# EAGLE library part ZXMHC3F381N8 (library bt_motordriver)
30V SO8 Complementary enhancement mode MOSFET H-Bridge This new generation complementary MOSFET H-Bridge features low on-resistance achievable with low gate drive (Vgs=4.5V). Reference: <http://www.diodes.com/datasheets/ZXMHC3F381N8.pdf>http://www.diodes.com/datasheets/ZXMHC3F381N8.pdf
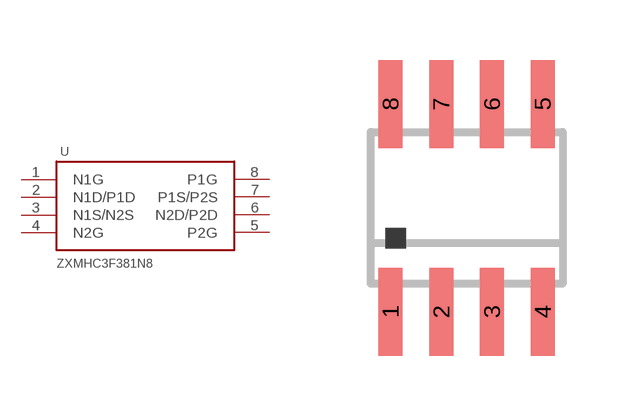
[diagram p0: symbol with the pads of SOIC8; footprint SOIC8]

Designator prefix -

## ZXMHC3F381N8  [SOIC8]
1  N1G
2  N1D/P1D
3  N1S/N2S
4  N2G
5  P2G
6  N2D/P2D
7  P1S/P2S
8  P1G

## Footprint SOIC8 (pad centres in mm)
Small Outline IC From ref-packages.lbr
smd 0.6 x 2.2: 1 -1.905,-2.6; 2 -0.635,-2.6; 3 0.635,-2.6; 4 1.905,-2.6; 5 1.905,2.6; 6 0.635,2.6; 7 -0.635,2.6; 8 -1.905,2.6